# EAGLE library part APA102 (library Arduino_Shield)
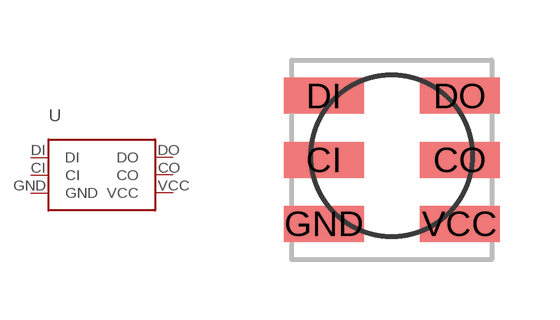
[diagram p0: symbol with the pads of RGBLED5050; footprint RGBLED5050]

Designator prefix -

## APA102SMD  [RGBLED5050]
CI  CI
CO  CO
DI  DI
DO  DO
GND  GND
VCC  VCC

## Footprint RGBLED5050 (pad centres in mm)
smd 2 x 0.9: CI -1.7,0; CO 1.7,0; DI -1.7,1.6; DO 1.7,1.6; GND -1.7,-1.6; VCC 1.7,-1.6